# Altium footprint library pcb_component.PcbLib: 38 footprints (part 3 of 3)
Each footprint in its own frame and in the unit in brackets; x right, y up, seen from the top. Pads: shape width x height; smd on the part's side, far side on the other; paste and mask are expansions set on the pad; w line width, h text height; cw(c..) or ccw(c..) is an arc to the next point about the centre after c.
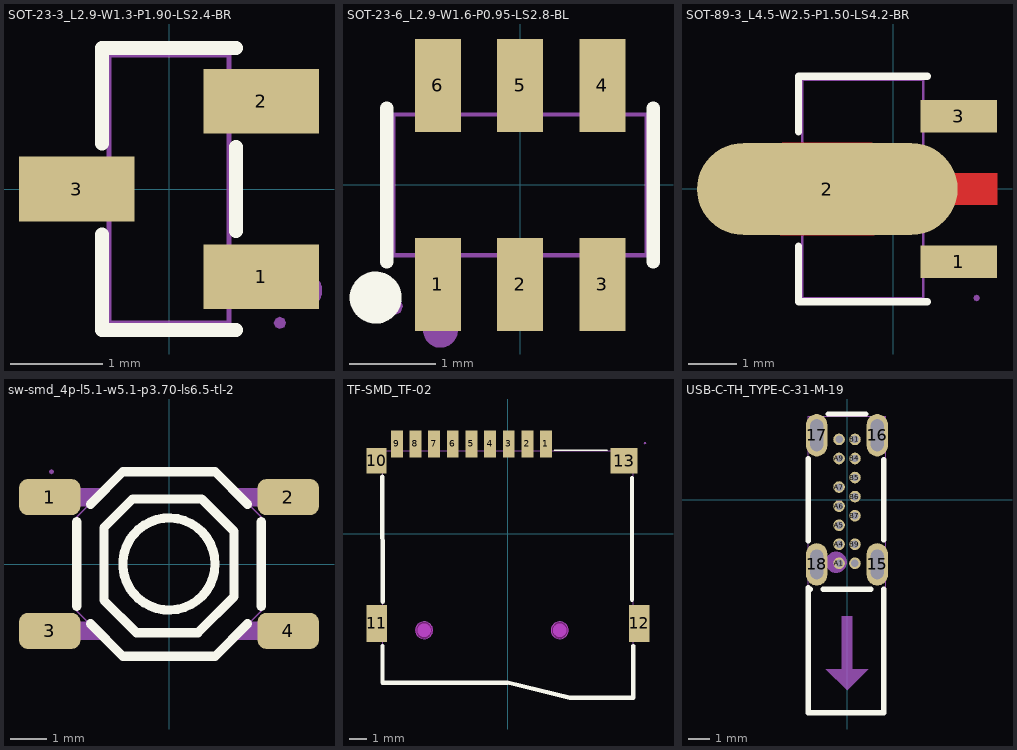
[diagram p2: the footprints below, top view; thin cyan lines are the x and y axes]

## SOT-23-3_L2.9-W1.3-P1.90-LS2.4-BR [mm]
pads (3):
  rect 1.25x0.7 smd paste+0 mask+0.051: 1(1,-0.95) 2(1,0.95) 3(-1,0)
Top Overlay:
  lines w0.152: -0.726,-0.495 -0.726,-1.526 0.726,-1.526 ; -0.726,0.495 -0.726,1.526 0.726,1.526 ; 0.726,-0.455 0.726,0.455
Mechanical 6:
  circle w0.2: c1.46,-1.1 r0.1
Mechanical 15:
  region: -1.2,-0.215 -1.2,0.215 -0.9,0.215 -0.9,-0.215
  region: -0.91,-0.215 -0.91,0.215 -0.64,0.215 -0.64,-0.215
  region: 0.9,-1.165 0.9,-0.735 1.2,-0.735 1.2,-1.165
  region: 0.64,-1.165 0.64,-0.735 0.91,-0.735 0.91,-1.165
  region: 0.9,0.735 0.9,1.165 1.2,1.165 1.2,0.735
  region: 0.64,0.735 0.64,1.165 0.91,1.165 0.91,0.735
  region: 1.265,-1.45 1.246,-1.404 1.2,-1.385 1.154,-1.404 1.135,-1.45 1.154,-1.496 1.2,-1.515 1.246,-1.496
  lines w0.051: -0.65,-1.45 0.65,-1.45 0.65,1.45 -0.65,1.45 -0.65,-1.45

## SOT-23-6_L2.9-W1.6-P0.95-LS2.8-BL [mm]
pads (6):
  rect 0.532x1.072 smd paste+0 mask+0.051: 1(-0.95,-1.149) 2(0,-1.149) 3(0.95,-1.149) 4(0.95,1.149) 5(0,1.149) 6(-0.95,1.149)
Top Overlay:
  circle w0.3: c-1.668,-1.301 r0.15
  lines w0.152: -1.539,-0.889 -1.539,0.889 ; 1.539,-0.889 1.539,0.889
Mechanical 6:
  circle w0.2: c-0.92,-1.68 r0.1
Mechanical 15:
  region: -1.165,0.935 -0.735,0.935 -0.735,0.803 -1.165,0.803
  region: -1.165,0.925 -0.735,0.925 -0.735,1.4 -1.165,1.4
  region: -0.215,0.935 0.215,0.935 0.215,0.803 -0.215,0.803
  region: -0.215,0.925 0.215,0.925 0.215,1.4 -0.215,1.4
  region: 0.735,0.935 1.165,0.935 1.165,0.803 0.735,0.803
  region: 0.735,0.925 1.165,0.925 1.165,1.4 0.735,1.4
  region: 0.735,-0.803 1.165,-0.803 1.165,-0.935 0.735,-0.935
  region: 0.735,-0.925 1.165,-0.925 1.165,-1.4 0.735,-1.4
  region: -0.215,-0.803 0.215,-0.803 0.215,-0.935 -0.215,-0.935
  region: -0.215,-0.925 0.215,-0.925 0.215,-1.4 -0.215,-1.4
  region: -1.165,-0.803 -0.735,-0.803 -0.735,-0.935 -1.165,-0.935
  region: -1.165,-0.925 -0.735,-0.925 -0.735,-1.4 -1.165,-1.4
  region: -1.355,-1.4 -1.386,-1.323 -1.463,-1.292 -1.54,-1.323 -1.571,-1.4 -1.54,-1.477 -1.463,-1.508 -1.386,-1.477
  lines w0.051: -1.463,-0.813 -1.463,0.813 1.463,0.813 1.463,-0.813 -1.463,-0.813

## SOT-89-3_L4.5-W2.5-P1.50-LS4.2-BR [mm]
pads (3):
  rect 1.575x0.672 smd paste+0 mask+0.051: 1(1.356,-1.5) 3(1.356,1.5)
  oval 5.377x1.9 smd: 2(-1.356,0)
Top Layer:
  region: -2.283,0.95 -0.429,0.95 -0.384,0.949 -0.34,0.946 -0.296,0.94 -0.252,0.933 -0.208,0.924 -0.165,0.912 -0.123,0.899 -0.081,0.884 -0.04,0.866 0,0.847 0.04,0.826 0.078,0.803 0.115,0.779 0.151,0.752 0.185,0.724 0.219,0.695 0.251,0.664 0.281,0.631 0.31,0.597 0.337,0.562 0.362,0.525 0.386,0.488 0.408,0.449 0.428,0.409 0.447,0.33 2.144,0.33 2.144,-0.33 0.447,-0.33 0.428,-0.409 0.408,-0.449 0.386,-0.488 0.362,-0.526 0.337,-0.562 0.31,-0.597 0.281,-0.631 0.251,-0.664 0.219,-0.695 0.185,-0.725 0.151,-0.753 0.115,-0.779 0.078,-0.804 0.04,-0.827 0,-0.848 -0.04,-0.867 -0.081,-0.884 -0.123,-0.899 -0.165,-0.913 -0.208,-0.924 -0.252,-0.934 -0.296,-0.941 -0.34,-0.946 -0.384,-0.949 -0.429,-0.95 -2.283,-0.95 -2.328,-0.949 -2.372,-0.946 -2.416,-0.941 -2.46,-0.934 -2.504,-0.924 -2.547,-0.913 -2.589,-0.899 -2.631,-0.884 -2.672,-0.867 -2.713,-0.848 -2.752,-0.827 -2.79,-0.804 -2.827,-0.779 -2.863,-0.753 -2.898,-0.725 -2.931,-0.695 -2.963,-0.664 -2.993,-0.631 -3.022,-0.597 -3.049,-0.562 -3.075,-0.526 -3.098,-0.488 -3.12,-0.449 -3.141,-0.409 -3.159,-0.369 -3.175,-0.327 -3.189,-0.285 -3.202,-0.242 -3.212,-0.199 -3.22,-0.155 -3.227,-0.111 -3.231,-0.067 -3.233,-0.022 -3.233,0.022 -3.231,0.067 -3.227,0.111 -3.22,0.155 -3.212,0.199 -3.202,0.242 -3.189,0.285 -3.175,0.327 -3.159,0.369 -3.141,0.409 -3.12,0.449 -3.098,0.488 -3.075,0.525 -3.049,0.562 -3.022,0.597 -2.993,0.631 -2.963,0.664 -2.931,0.695 -2.898,0.724 -2.863,0.752 -2.827,0.779 -2.79,0.803 -2.752,0.826 -2.713,0.847 -2.672,0.866 -2.631,0.884 -2.589,0.899 -2.547,0.912 -2.504,0.924 -2.46,0.933 -2.416,0.94 -2.372,0.946 -2.328,0.949
Top Overlay:
  lines w0.152: -1.95,-1.177 -1.95,-2.326 0.702,-2.326 ; -1.95,1.177 -1.95,2.326 0.702,2.326
Mechanical 6:
  circle w0.3: c1.715,-1.5 r0.15
Mechanical 15:
  region: 0.624,1.75 1.724,1.75 1.724,1.25 0.624,1.25
  region: 0.624,-1.25 1.724,-1.25 1.724,-1.75 0.624,-1.75
  region: 0.439,-0.26 1.724,-0.26 1.724,0.26 0.439,0.26 -0.136,0.863 -2,0.863 -2.471,0.288 -2.471,-0.287 -2,-0.862 -0.136,-0.862
  region: 1.789,-2.25 1.77,-2.204 1.724,-2.185 1.678,-2.204 1.659,-2.25 1.678,-2.296 1.724,-2.315 1.77,-2.296
  lines w0.051: -1.874,-2.25 0.626,-2.25 0.626,2.25 -1.874,2.25 -1.874,-2.25

## sw-smd_4p-l5.1-w5.1-p3.70-ls6.5-tl-2 [mm]
pads (4):
  rrect50% 1.7x1 smd paste+0 mask+0.051: 1(-3.3,1.85) 2(3.3,1.85) 3(-3.3,-1.85) 4(3.3,-1.85)
Top Overlay:
  circle w0.254: c0,0 r1.275
  lines w0.254: -2.55,-1.168 -2.55,1.168 ; -2.17,-1.655 -1.275,-2.55 1.275,-2.55 2.17,-1.655 ; -2.17,1.655 -1.275,2.55 1.275,2.55 2.17,1.655 ; 2.55,-1.168 2.55,1.168 ; -1.801,-0.998 -0.899,-1.9 0.8,-1.9 1.801,-0.899 1.801,0.899 0.899,1.801 -1.001,1.801 -1.801,1.001 -1.801,-0.998
Mechanical 15:
  region: -3.25,2.485 -3.204,2.504 -3.185,2.55 -3.204,2.596 -3.25,2.615 -3.296,2.596 -3.315,2.55 -3.296,2.504
  region: 2.85,-2.1 2.85,-1.6 3.25,-1.6 3.25,-2.1
  region: 2.2,1.6 1.7,2.1 2.86,2.1 2.86,1.6
  region: 2.85,1.6 2.85,2.1 3.25,2.1 3.25,1.6
  region: -3.25,1.599 -3.25,2.099 -2.85,2.099 -2.85,1.599
  region: -3.25,-2.1 -3.25,-1.6 -2.85,-1.6 -2.85,-2.1
  region: -2.2,-1.6 -1.7,-2.1 -2.86,-2.1 -2.86,-1.6
  region: 2.201,-1.601 1.701,-2.101 2.861,-2.101 2.861,-1.601
  region: -2.2,1.599 -1.7,2.099 -2.86,2.1 -2.86,1.6
  lines w0.051: -2.55,-1.3 -1.3,-2.55 1.3,-2.55 2.55,-1.3 2.55,1.3 1.3,2.55 -1.3,2.55 -2.55,1.3 -2.55,-1.3

## TF-SMD_TF-02 [mm]
pads (13):
  rect 0.7x1.6 smd paste+0 mask+0.051: 1(2.245,5.3) 2(1.145,5.3) 3(0.046,5.3) 4(-1.054,5.3) 5(-2.154,5.3) 6(-3.255,5.3) 7(-4.354,5.3) 8(-5.454,5.3) 9(-6.554,5.3)
  rect 1.2x1.5 smd paste+0 mask+0.051: 10(-7.754,4.3)
  rect 1.2x2.2 smd paste+0 mask+0.051: 11(-7.746,-5.3) 12(7.754,-5.3)
  rect 1.6x1.5 smd paste+0 mask+0.051: 13(6.854,4.3)
Top Overlay:
  lines w0.102: 2.74,4.926 5.839,4.927
  lines w0.254: -7.413,3.359 -7.394,-4.018 ; -7.395,-6.63 -7.395,-8.789 -0.021,-8.789 3.639,-9.681 7.391,-9.681 7.391,-6.63 ; 7.319,-3.908 7.319,3.28
Keep-Out Layer:
  board cut-out: 2.544,-5.7 2.583,-5.895 2.693,-6.06 2.859,-6.171 3.054,-6.21 3.249,-6.171 3.414,-6.06 3.525,-5.895 3.564,-5.7 3.525,-5.505 3.414,-5.34 3.249,-5.229 3.054,-5.19 2.859,-5.229 2.693,-5.34 2.583,-5.505
  board cut-out: -5.456,-5.7 -5.417,-5.895 -5.306,-6.06 -5.141,-6.171 -4.946,-6.21 -4.751,-6.171 -4.586,-6.06 -4.475,-5.895 -4.436,-5.7 -4.475,-5.505 -4.586,-5.34 -4.751,-5.229 -4.946,-5.19 -5.141,-5.229 -5.306,-5.34 -5.417,-5.505
Mechanical 1:
  circle w0.005: c3.054,-5.7 r0.5
  circle w0.005: c-4.946,-5.7 r0.5
Mechanical 6:
  circle w0.4: c-4.946,-5.7 r0.2
  circle w0.4: c3.054,-5.7 r0.2
Mechanical 15:
  region: 8.019,5.337 8.038,5.291 8.084,5.272 8.13,5.291 8.149,5.337 8.13,5.383 8.084,5.402 8.038,5.383
  region: 6.613,4.789 7.263,4.789 7.263,3.789 6.613,3.789
  region: -8.071,3.789 -8.071,4.789 -7.371,4.789 -7.371,3.789
  region: -8.076,-4.5 -7.276,-4.5 -7.276,-6.1 -8.076,-6.1
  region: 7.284,-4.5 8.084,-4.5 8.084,-6.1 7.284,-6.1
  region: 2.095,5.478 2.395,5.478 2.395,4.828 2.095,4.828
  region: 0.995,5.478 1.295,5.478 1.295,4.828 0.995,4.828
  region: -0.104,5.478 0.196,5.478 0.196,4.828 -0.104,4.828
  region: -1.204,5.478 -0.904,5.478 -0.904,4.828 -1.204,4.828
  region: -2.304,5.478 -2.004,5.478 -2.004,4.828 -2.304,4.828
  region: -3.405,5.478 -3.105,5.478 -3.105,4.828 -3.405,4.828
  region: -4.504,5.478 -4.204,5.478 -4.204,4.828 -4.504,4.828
  region: -5.604,5.478 -5.304,5.478 -5.304,4.828 -5.604,4.828
  region: -6.704,5.478 -6.404,5.478 -6.404,4.828 -6.704,4.828
  lines w0.051: -7.376,-8.788 -7.376,4.878 7.384,4.878 7.384,-9.622 3.636,-9.678 1.656,-9.091 0.128,-8.824 -1.074,-8.788 -7.376,-8.788
Multi-Layer:
  pour cut-out: 2.544,-5.7 2.583,-5.895 2.693,-6.06 2.859,-6.171 3.054,-6.21 3.249,-6.171 3.414,-6.06 3.525,-5.895 3.564,-5.7 3.525,-5.505 3.414,-5.34 3.249,-5.229 3.054,-5.19 2.859,-5.229 2.693,-5.34 2.583,-5.505
  pour cut-out: -5.456,-5.7 -5.417,-5.895 -5.306,-6.06 -5.141,-6.171 -4.946,-6.21 -4.751,-6.171 -4.586,-6.06 -4.475,-5.895 -4.436,-5.7 -4.475,-5.505 -4.586,-5.34 -4.751,-5.229 -4.946,-5.19 -5.141,-5.229 -5.306,-5.34 -5.417,-5.505

## USB-C-TH_TYPE-C-31-M-19 [mm]
pads (18):
  oval 1x2 / inner round 1.524 / far side round 1.524 hole 0.6 slot 1.4 at 90 deg paste+0 mask+0.051: 15(1.43,-3.05) 18(-1.43,-3.05)
  oval 1x2 / inner round 1.524 / far side round 1.524 hole 0.6 slot 1.5 at 90 deg paste+0 mask+0.051: 16(1.43,3.05) 17(-1.43,3.05)
  round 0.55 / inner round 1.524 / far side round 1.524 hole 0.35 paste+0 mask+0.05: A1(-0.375,-3) A4(-0.375,-2.1) A5(-0.375,-1.2) A6(-0.375,-0.3) A7(-0.375,0.6) A9(-0.375,1.95) A12(-0.375,2.85) B1(0.375,2.85) B4(0.375,1.95) B5(0.375,1.05) B6(0.375,0.15) B7(0.375,-0.75) B9(0.375,-2.1) B12(0.375,-3)
Top Overlay:
  lines w0.254: -1.83,-4.216 -1.727,-4.216 ; -1.83,-4.162 -1.83,-10.05 1.73,-10.05 1.73,-4.216 1.727,-4.216 ; -1.83,-1.938 -1.83,1.939 ; -1.133,-4.216 1.133,-4.216 ; -0.898,4.05 0.897,4.05 ; 1.73,-1.883 1.73,1.884
Mechanical 6:
  circle w0.5: c-0.509,-2.95 r0.25
  region: -0.25,-8 -0.25,-5.5 0.25,-5.5 0.25,-8
  region: -1,-8 1,-8 0,-9
Mechanical 15:
  region: -0.3,2.725 -0.45,2.725 -0.45,2.975 -0.3,2.975
  region: -0.3,1.825 -0.45,1.825 -0.45,2.075 -0.3,2.075
  region: -0.3,0.475 -0.45,0.475 -0.45,0.725 -0.3,0.725
  region: -0.3,-0.425 -0.45,-0.425 -0.45,-0.175 -0.3,-0.175
  region: -0.3,-1.325 -0.45,-1.325 -0.45,-1.075 -0.3,-1.075
  region: -0.3,-2.225 -0.45,-2.225 -0.45,-1.975 -0.3,-1.975
  region: -0.3,-3.125 -0.45,-3.125 -0.45,-2.875 -0.3,-2.875
  region: 0.45,-3.125 0.3,-3.125 0.3,-2.875 0.45,-2.875
  region: 0.45,-2.225 0.3,-2.225 0.3,-1.975 0.45,-1.975
  region: 0.45,-0.875 0.3,-0.875 0.3,-0.625 0.45,-0.625
  region: 0.45,0.025 0.3,0.025 0.3,0.275 0.45,0.275
  region: 0.45,0.925 0.3,0.925 0.3,1.175 0.45,1.175
  region: 0.45,1.825 0.3,1.825 0.3,2.075 0.45,2.075
  region: 0.45,2.725 0.3,2.725 0.3,2.975 0.45,2.975
  region: -1.58,3.825 -1.28,3.825 -1.28,2.275 -1.58,2.275
  region: 1.28,3.825 1.58,3.825 1.58,2.275 1.28,2.275
  region: 1.28,-2.55 1.58,-2.55 1.58,-3.55 1.28,-3.55
  region: -1.58,-2.55 -1.28,-2.55 -1.28,-3.55 -1.58,-3.55
  region: -1.895,-10.05 -1.876,-10.096 -1.83,-10.115 -1.784,-10.096 -1.765,-10.05 -1.784,-10.004 -1.83,-9.985 -1.876,-10.004
  lines w0.051: -1.83,-10.05 1.83,-10.05 1.83,3.95 -1.83,3.95 -1.83,-10.05